# Altium schematic symbol library PGA280AIPW.SchLib: 1 symbol
Pins are listed as number, name and electrical type; pins without a type are passive.

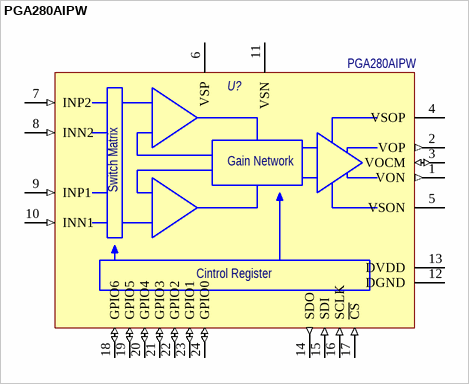
[diagram p0: symbol PGA280AIPW]

## PGA280AIPW
designator U?
Zerø-Drift, High-Voltage, Programmable Gain INSTRUMENTATION AMPLIFIER; Потребление, Вт: 0.01; Назначение: Zerø-Drift, High-Voltage, Programmable Gain INSTRUMENTATION AMPLIFIER; ComponentLink1Description: DataSheet; ComponentLink1URL: https://www.ti.com/lit/ds/symlink/pga280.pdf?ts=1651211598800&ref_url=https%253A%252F%252Fwww.google.com%252F; Наименование: PGA280AIPW
footprint TSSOP-24
pins: 1 VON (out) "Inverting signal output", 2 VOP (out) "Noninverting signal output", 3 VOCM (io) "Input, output common-mode voltage", 4 VSOP (power) "Positive supply for output", 5 VSON (power) "Negative supply for output, AGND", 6 VSP (power) "Positive high-voltage supply", 7 INP2 (in) "AUX input, noninverting", 8 INN2 (in) "AUX input, inverting", 9 INP1 (in) "Signal input, noninverting", 10 INN1 (in) "Signal input, inverting", 11 VSN (power) "Negative high-voltage supply", 12 DGND (power) "Digital ground", 13 DVDD (power) "Digital supply", 14 SDO (out) "SPI slave data output", 15 SDI (in) "SPI slave data input", 16 SCLK (in) "SPI clock input", 17 ~{CS} (in) "SPI chip select input; active low", 18 GPIO6 (io) "GPIO 6, SYNC (in), OSC (out), ECS6", 19 GPIO5 (io) "GPIO 5, BUFA (out), ECS5", 20 GPIO4 (io) "GPIO 4, BUFT (in), ECS4", 21 GPIO3 (io) "GPIO 3, EF (out), ECS3", 22 GPIO2 (io) "GPIO 2, ECS2, MUX2", 23 GPIO1 (io) "GPIO 1, ECS1, MUX1", 24 GPIO0 (io) "GPIO 0, ECS0, MUX0"
text: Gain Network; Switch Matrix; Cintrol Register